# Altium schematic symbol library rt10.SCHLIB: 73 symbols
Pins are listed as number, name and electrical type; pins without a type are passive.

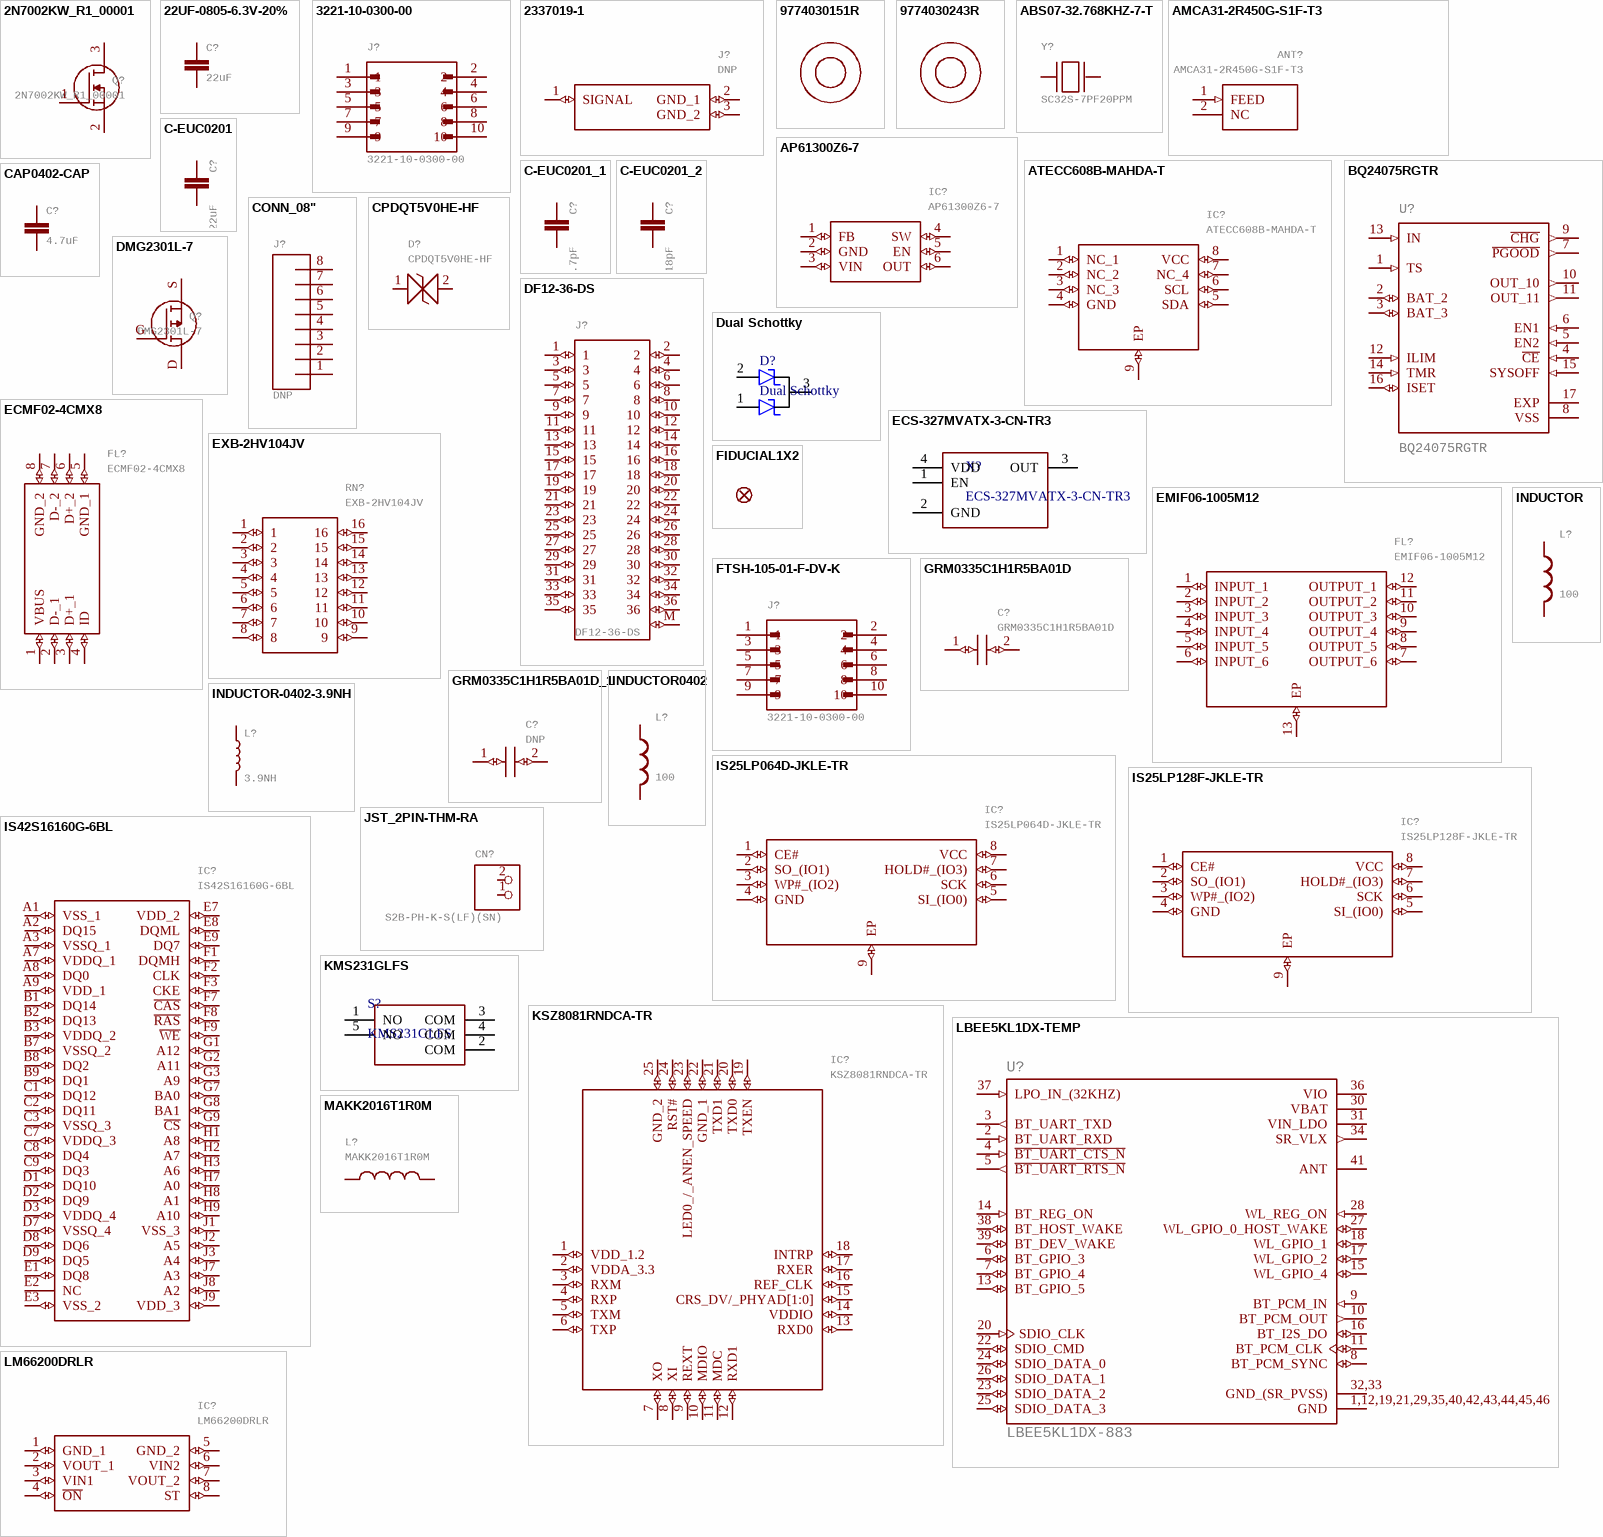
[diagram p0: symbols 2N7002KW_R1_00001 to MAKK2016T1R0M]

## 2N7002KW_R1_00001
designator Q?
MOSFET 60V N-Channel Enhancement Mode MOSFET - ESD Protected   Source:  Datasheet; MANUFACTURER_NAME: PANJIT; GateName_1: G$1; SymbolName_1: 2N7002KW_R1_00001; LibraryName: 2N7002KW_R1_00001; DeviceSetName: 2N7002KW_R1_00001; HEIGHT: 1.1mm; MANUFACTURER_PART_NUMBER: 2N7002KW_R1_00001; MOUSER_PART_NUMBER: 241-2N7002KWR100001; MOUSER_PRICE-STOCK: https://www.mouser.co.uk/ProductDetail/Panjit/2N7002KW_R1_00001?qs=sPbYRqrBIVliWKATqv7jNA%3D%3D; MPN: 2N7002KW_R1_00001
footprint SOT65P210X110-3N
pins: 1 G (io), 2 S (io), 3 D (io)

## 22UF-0805-6.3V-20%
designator C?, comment 22uF
22ÂµF ceramic capacitors    A capacitor is a passive two-terminal electrical component used to store electrical energy temporarily in an electric field.; MPN: CL21A226MQQNNNE; GateName_1: G$1; SymbolName_1: CAP; DeviceName: -0805-6.3V-20%; PROD_ID: CAP-08402; LibraryName: SparkFun-Capacitors; DeviceSetName: 22UF
footprint 0805
pins: 1, 2

## 3221-10-0300-00
designator J?
Check availability; GateName_1: G$1; MF: CNC Tech; SymbolName_1: 3221-10-0300-00; LibraryName: 3221-10-0300-00; DeviceSetName: 3221-10-0300-00; AVAILABILITY: In Stock; MP: 3221-10-0300-00; MPN: 3221-10-0300-00; PACKAGE: None; PRICE: None; PURCHASE-URL: https://pricing.snapeda.com/search/part/3221-10-0300-00/?ref=eda
footprint CNC_3221-10-0300-00
pins: 1, 2, 3, 4, 5, 6, 7, 8, 9, 10

## 2337019-1
designator J?, comment DNP
RF Connectors / Coaxial Connectors MicroCoax receptacle UMCC Gen 1   Source:  Datasheet; MANUFACTURER_NAME: TE Connectivity; GateName_1: G$1; SymbolName_1: 2337019-1; POPULATE: 0; LibraryName: 2337019-1; DeviceSetName: 2337019-1; HEIGHT: 1.4mm; MANUFACTURER_PART_NUMBER: 2337019-1; MOUSER_PART_NUMBER: 571-2337019-1; MOUSER_PRICE-STOCK: https://www.mouser.co.uk/ProductDetail/TE-Connectivity/2337019-1?qs=l4Gc20tDgJIuN7nS9rJkJw%3D%3D; MPN: 2337019-1
footprint 23370191
pins: 1 SIGNAL (io), 2 GND_1 (io), 3 GND_2 (io)

## 9774030151R
designator M?  (value not drawn)
GateName_1: G$1; SymbolName_1: 9774030151R; LibraryName: 9774030151R; DeviceSetName: 9774030151R; MPN: 9774030151R
footprint 9774030151R

## 9774030243R
designator M?  (value not drawn)
GateName_1: G$1; SymbolName_1: 9774030243R; LibraryName: 9774030243R; DeviceSetName: 9774030243R; MPN: 9774030243R
footprint 9774030243R (Round Standoff Threaded M2x0.4 Steel 0.118" (3.00mm))

## ABS07-32.768KHZ-7-T
designator Y?, comment SC32S-7PF20PPM
Check availability; GateName_1: G$1; SymbolName_1: ABS07-32.768KHZ-7-T; MF: Abracon; LibraryName: ABS07-32.768KHZ-7-T; DeviceSetName: ABS07-32.768KHZ-7-T; AVAILABILITY: In Stock; MP: ABS07-32.768KHZ-7-T; MPN: SC32S-7PF20PPM; PACKAGE: SMD-2 Abracon LLC; PRICE: None; PURCHASE-URL: https://pricing.snapeda.com/search/part/ABS07-32.768KHZ-7-T/?ref=eda
footprint XTAL_ABS07-32.768KHZ-7-T
pins: 1, 2

## AMCA31-2R450G-S1F-T3
designator ANT?
ABRACON - AMCA31-2R450G-S1F-T3 - ANTENNA, CHIP, 2.45GHZ, 50 OHM, 1206   Source:  Datasheet; GateName_1: G$1; SymbolName_1: AMCA31-2R450G-S1F-T3; LibraryName: AMCA31-2R450G-S1F-T3; DeviceSetName: AMCA31-2R450G-S1F-T3; HEIGHT: 1.4mm; MANUFACTURER_NAME: ABRACON; MANUFACTURER_PART_NUMBER: AMCA31-2R450G-S1F-T3; MOUSER_PART_NUMBER: 815-CA312R450GS1FT3; MOUSER_PRICE-STOCK: https://www.mouser.co.uk/ProductDetail/ABRACON/AMCA31-2R450G-S1F-T3?qs=AAveGqk956GLuOddQEK40Q%3D%3D; MPN: AMCA31-2R450G-S1F-T3
footprint ANTC3216X140N
pins: 1 FEED (in), 2 NC

## AP61300Z6-7
designator IC?
DCDC Conv LV Buck SOT563 T&R 3K   Source:  Datasheet; MANUFACTURER_NAME: Diodes Inc.; GateName_1: G$1; SymbolName_1: AP61300Z6-7; LibraryName: AP61300Z6-7; DeviceSetName: AP61300Z6-7; HEIGHT: 0.6mm; MANUFACTURER_PART_NUMBER: AP61300Z6-7; MOUSER_PART_NUMBER: 621-AP61300Z6-7; MOUSER_PRICE-STOCK: https://www.mouser.co.uk/ProductDetail/Diodes-Incorporated/AP61300Z6-7?qs=HBWAp0VN4Ri0dzb0XP2pEA%3D%3D; MPN: AP61300Z6-7
footprint SOTFL50P162X60-6N
pins: 1 FB (io), 2 GND (io), 3 VIN (io), 4 SW (io), 5 EN (io), 6 OUT (io)

## ATECC608B-MAHDA-T
designator IC?
CryptoAuthentication 8-Pin UDFN EP T/R   Source:  Datasheet; MANUFACTURER_NAME: Microchip; GateName_1: G$1; SymbolName_1: ATECC608B-MAHDA-T; LibraryName: ATECC608B-MAHDA-T; DeviceSetName: ATECC608B-MAHDA-T; HEIGHT: 0.6mm; MANUFACTURER_PART_NUMBER: ATECC608B-MAHDA-T; MOUSER_PART_NUMBER: 579-TECC608B-MAHDA-T; MOUSER_PRICE-STOCK: https://www.mouser.co.uk/ProductDetail/Microchip-Technology/ATECC608B-MAHDA-T?qs=W%2FMpXkg%252BdQ71cGyt0Wo3Jw%3D%3D; MPN: ATECC608B-MAHDA-T
footprint SON50P300X200X60-9N
pins: 1 NC_1 (io), 2 NC_2 (io), 3 NC_3 (io), 4 GND (io), 5 SDA (io), 6 SCL (io), 7 NC_4 (io), 8 VCC (io), 9 EP (io)

## BQ24075RGTR
designator U?
Standalone 1-cell 1.5-A linear charger, Power Path, 4.2-V VBAT and 5.5-V VOUT 16-VQFN -40 to 85  Check availability; GateName_1: G$1; MF: Texas Instruments; SymbolName_1: BQ24075RGTR; LibraryName: BQ24075RGTR; DeviceSetName: BQ24075RGTR; AVAILABILITY: In Stock; MP: BQ24075RGTR; MPN: BQ24075RGTR; PACKAGE: VQFN-16 Texas Instruments; PRICE: None; PURCHASE-URL: https://pricing.snapeda.com/search/part/BQ24075RGTR/?ref=eda
footprint QFN50P300X300X100-17N
pins: 1 TS (in), 2 BAT_2 (io), 3 BAT_3 (io), 4 ~{CE} (in), 5 EN2 (in), 6 EN1 (in), 7 ~{PGOOD} (out), 8 VSS (power), 9 ~{CHG} (out), 10 OUT_10 (out), 11 OUT_11 (out), 12 ILIM (in), 13 IN (in), 14 TMR (in), 15 SYSOFF (in), 16 ISET (io), 17 EXP (power)

## C-EUC0201
designator C?, comment 0.22uF
CAPACITOR, European symbol; MPN: GRM033R60J224ME15D; GateName_1: G$1; SymbolName_1: C-EU; DeviceName: C0201; POPULARITY: 0; LibraryName: rcl; DeviceSetName: C-EU; SPICEPREFIX: C
footprint C0201
pins: 1, 2

## C-EUC0201_1
designator C?, comment 4.7pF
CAPACITOR, European symbol; MPN: GRM0335C1E4R7CA01D; GateName_1: G$1; SymbolName_1: C-EU; DeviceName: C0201; POPULARITY: 0; LibraryName: rcl; DeviceSetName: C-EU; SPICEPREFIX: C
footprint C0201
pins: 1, 2

## C-EUC0201_2
designator C?, comment 18pF
CAPACITOR, European symbol; MPN: GRM0335C1E180JA01D; GateName_1: G$1; SymbolName_1: C-EU; DeviceName: C0201; POPULARITY: 0; LibraryName: rcl; DeviceSetName: C-EU; SPICEPREFIX: C
footprint C0201
pins: 1, 2

## CAP0402-CAP
designator C?, comment 4.7uF
CapacitorStandard 0603 ceramic capacitor, and 0.1" leaded capacitor.; MPN: JMK105BBJ475MV-F; GateName_1: G$1; SymbolName_1: CAP; DeviceName: 0402-CAP; LibraryName: sfe; DeviceSetName: CAP
footprint 0402-CAP
pins: 1, 2

## CONN_08"
designator J?, comment DNP
Multi connection point. Often used as Generic Header-pin footprint for 0.1 inch spaced/style header connections    On any of the 0.1 inch spaced packages, you can populate with these:  Break Away Headers - Straight (PRT-00116)   Break Away Male Headers - Right Angle (PRT-00553)   Female Headers (PRT-00115)   Break Away Headers - Machine Pin (PRT-00117)   Break Away Female Headers - Swiss Machine Pin (PRT-00743)   Arduino Stackable Header - 8 Pin (PRT-09279)        For SCREWTERMINALS and SPRING TERMINALS visit here:  Screw Terimnals on SparkFun.com (5mm/3.5mm/2.54mm spacing)       This device is also useful as a general connection point to wire up your design to another part of your project. Our various solder wires solder well into these plated through hole pads.  Hook-Up Wire - Assortment (Stranded, 22 AWG) (PRT-11375)   Hook-Up Wire - Assortment (Solid Core, 22 AWG) (PRT-11367)   View the entire wire category on our website here          Special notes:     Molex polarized connector foot print use with SKU : PRT-08231 with associated crimp pins and housings. 1MM SMD Version SKU: PRT-10208    NOTES ON THE VARIANTS LOCK and LOCK_LONGPADS... This footprint was designed to help hold the alignment of a through-hole component (i.e.  6-pin header) while soldering it into place. You may notice that each hole has been shifted either up or down by 0.005 of an inch from it's more standard position (which is a perfectly straight line).  This slight alteration caused the pins (the squares in the middle) to touch the edges of the holes.  Because they are alternating, it causes a "brace" to hold the component in place.  0.005 has proven to be the perfect amount of "off-center" position when using our standard breakaway headers. Although looks a little odd when you look at the bare footprint, once you have a header in there, the alteration is very hard to notice.  Also,if you push a header all the way into place, it is covered up entirely on the bottom side.; GateName_1: G$1; SymbolName_1: CONN_08; DeviceName: "; POPULATE: 0; PROD_ID: CONN-08438; LibraryName: SparkFun-Connectors; DeviceSetName: CONN_08
footprint 1X08
pins: 1, 2, 3, 4, 5, 6, 7, 8

## CPDQT5V0HE-HF
designator D?
ESD Suppressors / TVS Diodes DIODE ESD 5VWM 65W 0402/SOD-923F   Source:  Datasheet; MANUFACTURER_NAME: Comchip Technology; GateName_1: G$1; SymbolName_1: CPDQT5V0HE-HF; LibraryName: CPDQT5V0HE-HF; DeviceSetName: CPDQT5V0HE-HF; HEIGHT: 0.42mm; MANUFACTURER_PART_NUMBER: CPDQT5V0HE-HF; MOUSER_PART_NUMBER: MOUSER_PART_NUMBER; MOUSER_PRICE-STOCK: MOUSER_PRICE-STOCK; MPN: CPDQT5V0HE-HF
footprint CPDQT5V0HEHF
pins: 1 (io), 2 (io)

## DF12-36-DS
designator J?
MPN: DF12NB-36DS-0.5V(51); GateName_1: G$1; SymbolName_1: DF12-36; LibraryName: DF12-36-DS; DeviceSetName: DF12-36-DS
footprint DF12-36-DS
pins: 1 (io), 2 (io), 3 (io), 4 (io), 5 (io), 6 (io), 7 (io), 8 (io), 9 (io), 10 (io), 11 (io), 12 (io), 13 (io), 14 (io), 15 (io), 16 (io), 17 (io), 18 (io), 19 (io), 20 (io), 21 (io), 22 (io), 23 (io), 24 (io), 25 (io), 26 (io), 27 (io), 28 (io), 29 (io), 30 (io), 31 (io), 32 (io), 33 (io), 34 (io), 35 (io), 36 (io), M (io)

## DMG2301L-7
designator Q?
GateName_1: G$1; HEIGHT: 1.1mm; MPN: DMG2301L-7
footprint SOT-23-3-FET
pins: D (io), G (io), S (io)

## Dual Schottky
designator D?
Value: ?V; MANUFACTURER P/N: *
footprint SOT-23-3 (Footprint not found)
pins: 1, 2, 3

## ECMF02-4CMX8
designator FL?
Common Mode Filter & ESD Prot. USB uQFN8 STMicroelectronics ECMF02 Series, Signal Filter uQFN SMD, Flat Contact Termination, 2.6 x 1.3 x 0.6mm   Source:  Datasheet; GateName_1: G$1; SymbolName_1: ECMF02-4CMX8; LibraryName: ECMF02-4CMX8; DeviceSetName: ECMF02-4CMX8; HEIGHT: mm; MANUFACTURER_NAME: STMicroelectronics; MANUFACTURER_PART_NUMBER: ECMF02-4CMX8; MOUSER_PART_NUMBER: 511-ECMF02-4CMX8; MOUSER_PRICE-STOCK: https://www.mouser.co.uk/ProductDetail/STMicroelectronics/ECMF02-4CMX8?qs=xYt8xtm2zhmK7GoDlDZR3A%3D%3D; MPN: ECMF02-4CMX8
footprint ECMF024CMX8
pins: 1 VBUS (io), 2 D-_1 (io), 3 D+_1 (io), 4 ID (io), 5 GND_1 (io), 6 D+_2 (io), 7 D-_2 (io), 8 GND_2 (io)

## ECS-327MVATX-3-CN-TR3
designator X?
Part Number: ECS-327MVATX-3-CN-TR3
footprint XTAL_3225
pins: 1 EN, 2 GND, 3 OUT, 4 VDD

## EMIF06-1005M12
designator FL?
EMI Filter Circuits 6lin lw cpcitnc EMI 45pF -35db @ 900MHz   Source:  Datasheet; MANUFACTURER_NAME: STMicroelectronics; GateName_1: G$1; SymbolName_1: EMIF06-1005M12; LibraryName: EMIF06-1005M12; DeviceSetName: EMIF06-1005M12; HEIGHT: 0.65mm; MANUFACTURER_PART_NUMBER: EMIF06-1005M12; MOUSER_PART_NUMBER: 511-EMIF06-1005M12; MOUSER_PRICE-STOCK: https://www.mouser.co.uk/ProductDetail/STMicroelectronics/EMIF06-1005M12?qs=VJaATVMq%252BXo0u09ZqtQg3A%3D%3D; MPN: EMIF06-1005M12
footprint SON40P150X250X65-13N
pins: 1 INPUT_1 (io), 2 INPUT_2 (io), 3 INPUT_3 (io), 4 INPUT_4 (io), 5 INPUT_5 (io), 6 INPUT_6 (io), 7 OUTPUT_6 (io), 8 OUTPUT_5 (io), 9 OUTPUT_4 (io), 10 OUTPUT_3 (io), 11 OUTPUT_2 (io), 12 OUTPUT_1 (io), 13 EP (io)

## EXB-2HV104JV
designator RN?
Resistor Networks & Arrays Resistor Array Chip 8 Elements 1506   Source:  Datasheet; MANUFACTURER_NAME: Panasonic; GateName_1: G$1; SymbolName_1: EXB-2HV104JV; LibraryName: EXB-2HV104JV; DeviceSetName: EXB-2HV104JV; HEIGHT: 0.55mm; MANUFACTURER_PART_NUMBER: EXB-2HV104JV; MOUSER_PART_NUMBER: 667-EXB-2HV104JV; MOUSER_PRICE-STOCK: https://www.mouser.co.uk/ProductDetail/Panasonic/EXB-2HV104JV?qs=9MgLB97nXf9MD%252BafCCtPcA%3D%3D
footprint EXB2HV104JV
pins: 1 (io), 2 (io), 3 (io), 4 (io), 5 (io), 6 (io), 7 (io), 8 (io), 9 (io), 10 (io), 11 (io), 12 (io), 13 (io), 14 (io), 15 (io), 16 (io)

## FIDUCIAL1X2
designator FD?  (value not drawn)
Fiducial Alignment Points    Point-of-reference for pick-and-place machines and other optical instruments.; GateName_1: G$1; DeviceName: 1X2; SymbolName_1: FIDUCIAL; LibraryName: SparkFun-Aesthetics; DeviceSetName: FIDUCIAL
footprint FIDUCIAL-1X2

## FTSH-105-01-F-DV-K
designator J?, comment 3221-10-0300-00
Check availability; GateName_1: G$1; SymbolName_1: FTSH-105-01-F-DV-K; MF: Samtec; LibraryName: FTSH-105-01-F-DV-K; DeviceSetName: FTSH-105-01-F-DV-K; AVAILABILITY: In Stock; MP: FTSH-105-01-F-DV-K; MPN: FTSH-105-01-F-DV-K; PACKAGE: None; PRICE: None
footprint CNC_3221-10-0300-00
pins: 1, 2, 3, 4, 5, 6, 7, 8, 9, 10

## GRM0335C1H1R5BA01D
designator C?
Chip Capacitor value 1R5   Source:  Datasheet; MANUFACTURER_NAME: Murata Electronics; GateName_1: G$1; SymbolName_1: GRM0335C1H1R5BA01D; LibraryName: GRM0335C1H1R5BA01D; DeviceSetName: GRM0335C1H1R5BA01D; HEIGHT: 0.33mm; MANUFACTURER_PART_NUMBER: GRM0335C1H1R5BA01D; MOUSER_PART_NUMBER: 81-GRM0335C1H1R5BA1D; MOUSER_PRICE-STOCK: https://www.mouser.co.uk/ProductDetail/Murata-Electronics/GRM0335C1H1R5BA01D?qs=7vGxPDjevFPFqveGwv%252BPUQ%3D%3D; MPN: GRM0335C1H1R5BA01D
footprint CAPC0603X33N
pins: 1 (io), 2 (io)

## GRM0335C1H1R5BA01D_1
designator C?, comment DNP
Chip Capacitor value 1R5   Source:  Datasheet; MANUFACTURER_NAME: Murata Electronics; GateName_1: G$1; SymbolName_1: GRM0335C1H1R5BA01D; POPULATE: 0; LibraryName: GRM0335C1H1R5BA01D; DeviceSetName: GRM0335C1H1R5BA01D; HEIGHT: 0.33mm; MANUFACTURER_PART_NUMBER: GRM0335C1H1R5BA01D; MOUSER_PART_NUMBER: 81-GRM0335C1H1R5BA1D; MOUSER_PRICE-STOCK: https://www.mouser.co.uk/ProductDetail/Murata-Electronics/GRM0335C1H1R5BA01D?qs=7vGxPDjevFPFqveGwv%252BPUQ%3D%3D; MPN: GRM0335C1H1R5BA01D
footprint CAPC0603X33N
pins: 1 (io), 2 (io)

## INDUCTOR
designator L?, comment 100
InductorsBasic Inductor/Choke - 0603 and 1206. Footprints are not proven and vary greatly between part numbers.; MPN: MFBM1V1608-101-R; GateName_1: G$1
footprint 0603-RES
pins: 1, 2

## INDUCTOR0402
designator L?, comment 100
InductorsBasic Inductor/Choke - 0603 and 1206. Footprints are not proven and vary greatly between part numbers.; MPN: MFBM1V1608-101-R; GateName_1: G$1; DeviceName: 0402; SymbolName_1: INDUCTOR; LibraryName: sfe; DeviceSetName: INDUCTOR
footprint C0402
pins: 1, 2

## INDUCTOR-0402-3.9NH
designator L?, comment 3.9NH
Inductors    Resist changes in electrical current. Basically a coil of wire.   SparkFun Products:  SparkFun Load Cell Amplifier - HX711  IOIO-OTG - V2.2; MPN: L-07C3N9SV6T; GateName_1: G$1; DeviceName: -0402-3.9NH; PROD_ID: NDUC-13457; SymbolName_1: INDUCTOR; LibraryName: SparkFun-Coils; DeviceSetName: INDUCTOR
footprint 0402
pins: 1, 2

## IS25LP064D-JKLE-TR
designator IC?
NOR Flash 64M 2.3-3.6V 166Mhz Serial NOR Flash   Source:  Datasheet; MANUFACTURER_NAME: Integrated Silicon Solution Inc.; GateName_1: G$1; SymbolName_1: IS25LP064D-JKLE-TR; LibraryName: IS25LP128F-JKLE-TR; DeviceSetName: IS25LP064D-JKLE-TR; HEIGHT: 0.8mm; MANUFACTURER_PART_NUMBER: IS25LP064D-JKLE-TR; MOUSER_PART_NUMBER: 870-5LP064D-JKLE-TR; MOUSER_PRICE-STOCK: https://www.mouser.com/ProductDetail/ISSI/IS25LP064D-JKLE-TR?qs=xZ%2FP%252Ba9zWqa2pmLA1ByOew%3D%3D; MPN: IS25LP064D-JKLE-TR
footprint SON127P500X595X80-9N
pins: 1 CE# (io), 2 SO_(IO1) (io), 3 WP#_(IO2) (io), 4 GND (io), 5 SI_(IO0) (io), 6 SCK (io), 7 HOLD#_(IO3) (io), 8 VCC (io), 9 EP (io)

## IS25LP128F-JKLE-TR
designator IC?
NOR Flash 128M 2.3-3.6V 166Mhz Serial NOR Flash   Source:  Datasheet; MANUFACTURER_NAME: Integrated Silicon Solution Inc.; GateName_1: G$1; SymbolName_1: IS25LP128F-JKLE-TR; LibraryName: IS25LP128F-JKLE-TR; DeviceSetName: IS25LP128F-JKLE-TR; HEIGHT: 0.8mm; MANUFACTURER_PART_NUMBER: IS25LP128F-JKLE-TR; MOUSER_PART_NUMBER: 870-IS25LP128FJKLETR; MOUSER_PRICE-STOCK: https://www.mouser.co.uk/ProductDetail/ISSI/IS25LP128F-JKLE-TR?qs=F5EMLAvA7IC8MN2X519UUw%3D%3D; MPN: IS25LP128F-JKLE-TR
footprint SON127P500X595X80-9N
pins: 1 CE# (io), 2 SO_(IO1) (io), 3 WP#_(IO2) (io), 4 GND (io), 5 SI_(IO0) (io), 6 SCK (io), 7 HOLD#_(IO3) (io), 8 VCC (io), 9 EP (io)

## IS42S16160G-6BL
designator IC?
DRAM 256M 16Mx16 166Mhz SDR SDRAM, 3.3V   Source:  Datasheet; MANUFACTURER_NAME: Integrated Silicon Solution Inc.; GateName_1: G$1; SymbolName_1: IS42S16160G-6BL; LibraryName: IS42S16160G-6BL; DeviceSetName: IS42S16160G-6BL; HEIGHT: 1.2mm; MANUFACTURER_PART_NUMBER: IS42S16160G-6BL; MOUSER_PART_NUMBER: 870-IS42S16160G-6BL; MOUSER_PRICE-STOCK: https://www.mouser.co.uk/ProductDetail/ISSI/IS42S16160G-6BL?qs=9hm%252BDT1Jr7yvZBhvmJyecQ%3D%3D; MPN: IS42S16160G-6BL
footprint BGA54C80P9X9_800X800X120
pins: A1 VSS_1 (io), A2 DQ15 (io), A3 VSSQ_1 (io), A7 VDDQ_1 (io), A8 DQ0 (io), A9 VDD_1 (io), B1 DQ14 (io), B2 DQ13 (io), B3 VDDQ_2 (io), B7 VSSQ_2 (io), B8 DQ2 (io), B9 DQ1 (io), C1 DQ12 (io), C2 DQ11 (io), C3 VSSQ_3 (io), C7 VDDQ_3 (io), C8 DQ4 (io), C9 DQ3 (io), D1 DQ10 (io), D2 DQ9 (io), D3 VDDQ_4 (io), D7 VSSQ_4 (io), D8 DQ6 (io), D9 DQ5 (io), E1 DQ8 (io), E2 NC, E3 VSS_2 (io), E7 VDD_2 (io), E8 DQML (io), E9 DQ7 (io), F1 DQMH (io), F2 CLK (io), F3 CKE (io), F7 ~{CAS} (io), F8 ~{RAS} (io), F9 ~{WE} (io), G1 A12 (io), G2 A11 (io), G3 A9 (io), G7 BA0 (io), G8 BA1 (io), G9 ~{CS} (io), H1 A8 (io), H2 A7 (io), H3 A6 (io), H7 A0 (io), H8 A1 (io), H9 A10 (io), J1 VSS_3 (io), J2 A5 (io), J3 A4 (io), J7 A3 (io), J8 A2 (io), J9 VDD_3 (io)

## JST_2PIN-THM-RA
designator CN?, comment S2B-PH-K-S(LF)(SN)
JST 2-Pin Connectors of various flavors SMT-RA (S2B-PH-SM4) 4UConnector #17311  SMT  (B2B-PH-SM4)  THM-RA (S2B-PH)  THM  (B2B-PH); GateName_1: G$1; SymbolName_1: PINHD2; DeviceName: -THM-RA; DeviceSetName: JST_2PIN; LibraryName: adafruit-updated; MPN: S2B-PH-K-S(LF)(SN)
footprint JST-PH-2-THM-RA
pins: 1 2, 2 1

## KMS231GLFS
designator S?
Part Number: KMS231GLFS
footprint KMS231GLFS
pins: 1 NO, 2 COM, 3 COM, 4 COM, 5 NO

## KSZ8081RNDCA-TR
designator IC?
Ethernet ICs 10/100 BASE-TX Physical Layer Transceiver   Source:  Datasheet; MANUFACTURER_NAME: Microchip; GateName_1: G$1; SymbolName_1: KSZ8081RNDCA-TR; LibraryName: KSZ8081RNDCA-TR; DeviceSetName: KSZ8081RNDCA-TR; HEIGHT: 0.9mm; MANUFACTURER_PART_NUMBER: KSZ8081RNDCA-TR; MOUSER_PART_NUMBER: 998-KSZ8081RNDCATR; MOUSER_PRICE-STOCK: https://www.mouser.co.uk/ProductDetail/Microchip-Technology-Atmel/KSZ8081RNDCA-TR?qs=U6T8BxXiZAXLXXdn%2FieQKw%3D%3D; MPN: KSZ8081RNDCA-TR
footprint QFN50P400X400X90-25N
pins: 1 VDD_1.2 (io), 2 VDDA_3.3 (io), 3 RXM (io), 4 RXP (io), 5 TXM (io), 6 TXP (io), 7 XO (io), 8 XI (io), 9 REXT (io), 10 MDIO (io), 11 MDC (io), 12 RXD1 (io), 13 RXD0 (io), 14 VDDIO (io), 15 CRS_DV/_PHYAD[1:0] (io), 16 REF_CLK (io), 17 RXER (io), 18 INTRP (io), 19 TXEN (io), 20 TXD0 (io), 21 TXD1 (io), 22 GND_1 (io), 23 LED0_/_ANEN_SPEED (io), 24 RST# (io), 25 GND_2 (io)

## LBEE5KL1DX-TEMP
designator U?, comment LBEE5KL1DX-883
Broadcom Chipset for 802.11b/g/n + Bluetooth 4.1/EDR; GateName_1: G$1; SymbolName_1: LBEE5KL1DX-TEMP; MF: Murata Electronics; LibraryName: LBEE5KL1DX-TEMP; DeviceSetName: LBEE5KL1DX-TEMP; AVAILABILITY: Unavailable; MP: LBEE5KL1DX-TEMP; MPN: LBEE5KL1DX-883; PACKAGE: None; PRICE: None
footprint XCVR_LBEE5KL1DX-TEMP
pins: 1,12,19,21,29,35,40,42,43,44,45,46 GND (power), 2 BT_UART_RXD (in), 3 BT_UART_TXD (out), 4 ~{BT_UART_CTS_N} (in), 5 ~{BT_UART_RTS_N} (out), 6 BT_GPIO_3 (io), 7 BT_GPIO_4 (io), 8 BT_PCM_SYNC (io), 9 BT_PCM_IN (in), 10 BT_PCM_OUT (out), 11 BT_PCM_CLK (io), 13 BT_GPIO_5 (io), 14 BT_REG_ON (in), 15 WL_GPIO_4 (io), 16 BT_I2S_DO (io), 17 WL_GPIO_2 (io), 18 WL_GPIO_1 (io), 20 SDIO_CLK (in), 22 SDIO_CMD (io), 23 SDIO_DATA_2 (io), 24 SDIO_DATA_0 (io), 25 SDIO_DATA_3 (io), 26 SDIO_DATA_1 (io), 27 WL_GPIO_0_HOST_WAKE (io), 28 WL_REG_ON (in), 30 VBAT (power), 31 VIN_LDO (power), 32,33 GND_(SR_PVSS) (power), 34 SR_VLX (out), 36 VIO (power), 37 LPO_IN_(32KHZ) (in), 38 BT_HOST_WAKE (io), 39 BT_DEV_WAKE (io), 41 ANT

## LM66200DRLR
designator IC?
1.6-V to 5.5-V, 40-m, 2.5-A, low-IQ, dual ideal diode   Source:  Datasheet; MANUFACTURER_NAME: Texas Instruments; GateName_1: G$1; SymbolName_1: LM66200DRLR; LibraryName: LM66200DRLR; DeviceSetName: LM66200DRLR; HEIGHT: 0.6mm; MANUFACTURER_PART_NUMBER: LM66200DRLR; MOUSER_PART_NUMBER: 595-LM66200DRLR; MOUSER_PRICE-STOCK: https://www.mouser.co.uk/ProductDetail/Texas-Instruments/LM66200DRLR?qs=Rp5uXu7WBW90hnpZAkIOdQ%3D%3D; MPN: LM66200DRLR
footprint SOTFL50P160X60-8N
pins: 1 GND_1 (io), 2 VOUT_1 (io), 3 VIN1 (io), 4 ~{ON} (io), 5 GND_2 (io), 6 VIN2 (io), 7 VOUT_2 (io), 8 ST (io)

## MAKK2016T1R0M
designator L?
Ind Power Wirewound 1uH 20% 2MHz Metal 2200mA 0806 Check availability; GateName_1: G$1; MF: Taiyo Yuden; SymbolName_1: MAKK2016T1R0M; LibraryName: MAKK2016T1R0M; DeviceSetName: MAKK2016T1R0M; AVAILABILITY: In Stock; MP: MAKK2016T1R0M; MPN: MAKK2016T1R0M; PACKAGE: 2016 Taiyo Yuden; PRICE: None; PURCHASE-URL: https://pricing.snapeda.com/search/part/MAKK2016T1R0M/?ref=eda
footprint INDC2016X100N
pins: 1, 2

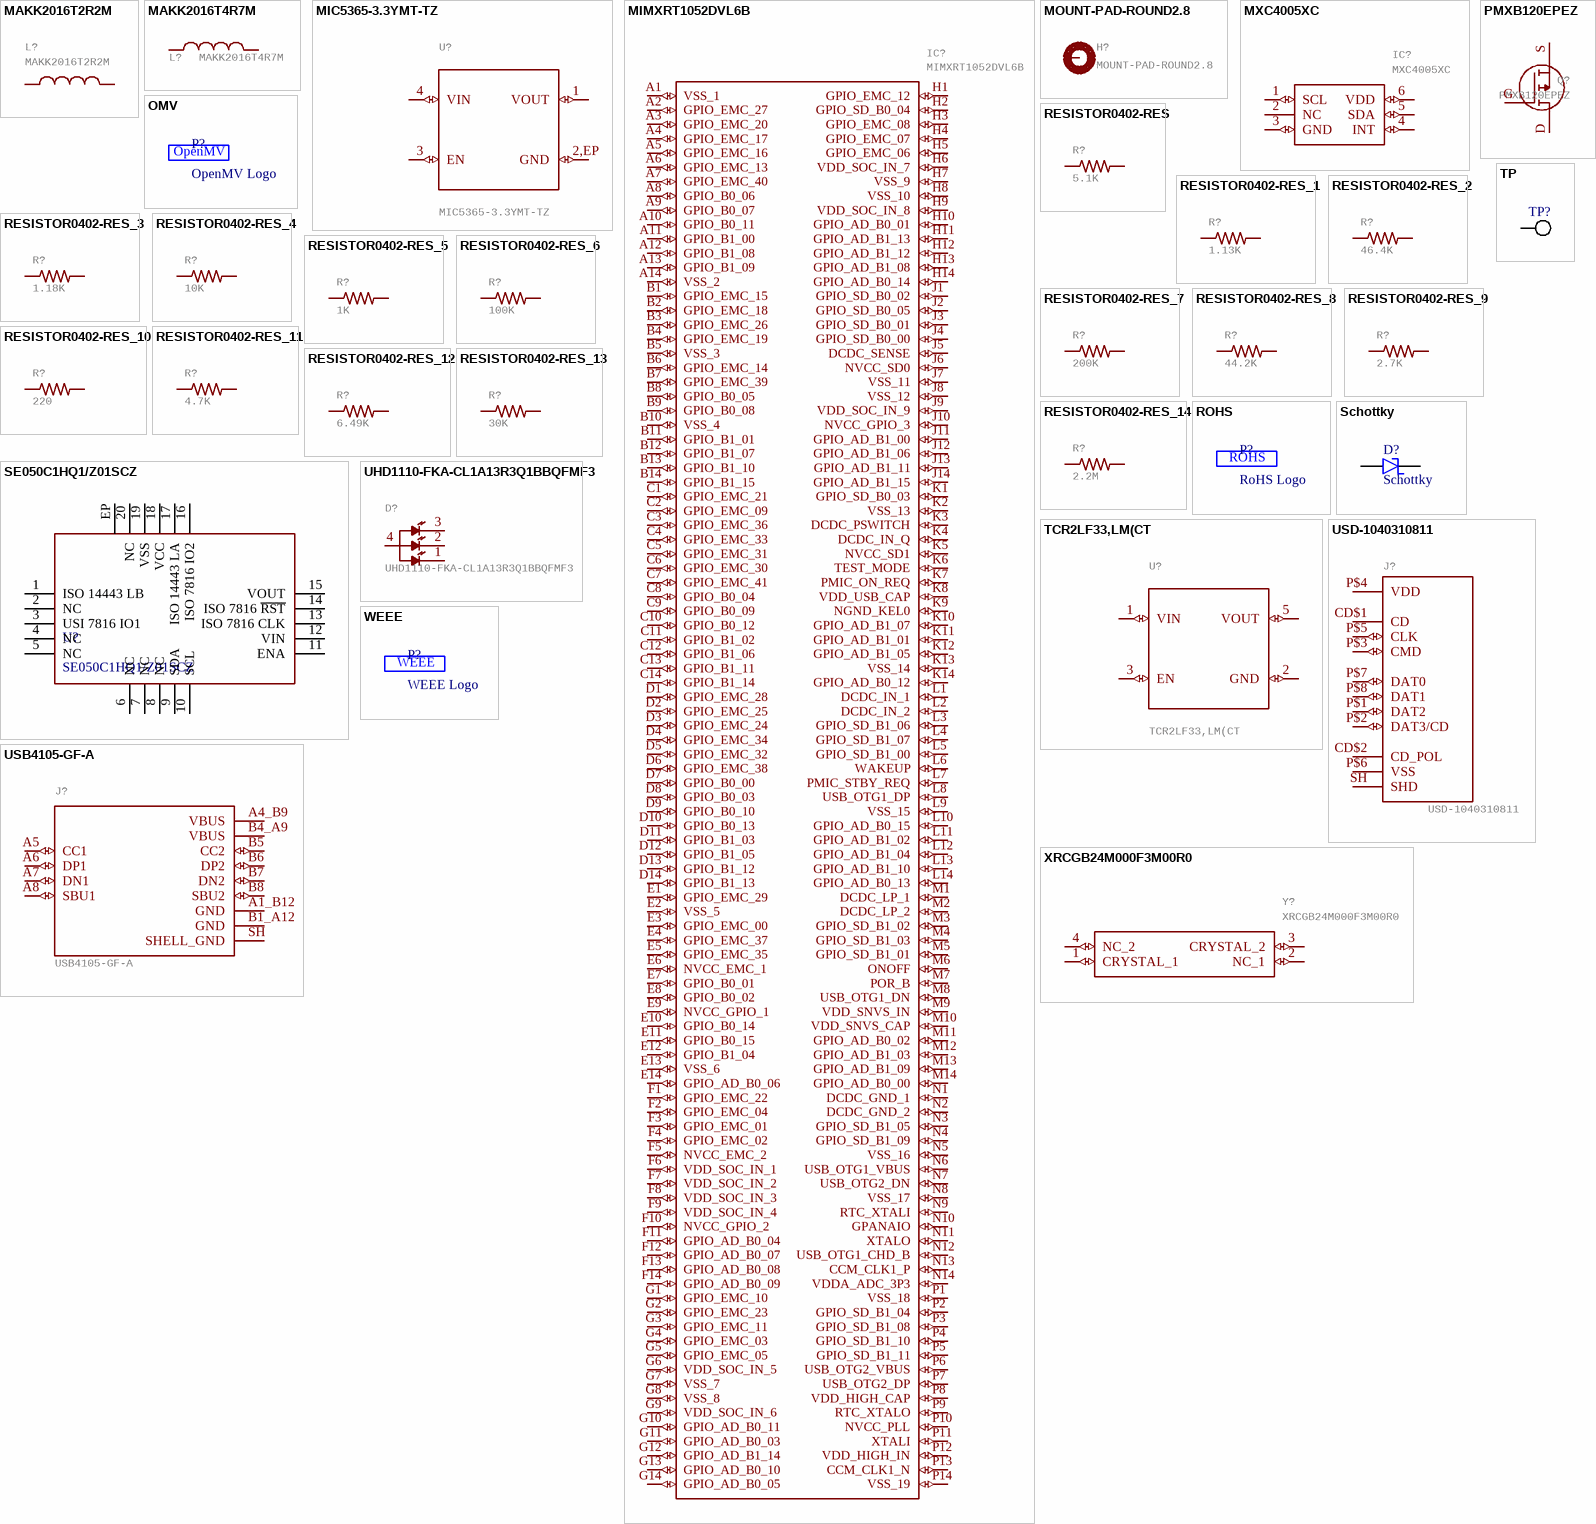
[diagram p1: symbols MAKK2016T2R2M to XRCGB24M000F3M00R0]

## MAKK2016T2R2M
designator L?
INDUCTOR, METAL CORE Check availability; GateName_1: G$1; MF: Taiyo Yuden; SymbolName_1: MAKK2016T2R2M; LibraryName: MAKK2016T2R2M; DeviceSetName: MAKK2016T2R2M; AVAILABILITY: In Stock; MP: MAKK2016T2R2M; MPN: MAKK2016T2R2M; PACKAGE: 2016 Taiyo Yuden; PRICE: None; PURCHASE-URL: https://pricing.snapeda.com/search/part/MAKK2016T2R2M/?ref=eda
footprint INDC2016X100N
pins: 1, 2

## MAKK2016T4R7M
designator L?
INDUCTOR, METAL CORE, SHIELDED, SMD HIGH CURRENT, 4.7uH, 20%, TR Check availability; GateName_1: G$1; MF: Taiyo Yuden; SymbolName_1: MAKK2016T4R7M; LibraryName: MAKK2016T4R7M; DeviceSetName: MAKK2016T4R7M; AVAILABILITY: In Stock; MP: MAKK2016T4R7M; MPN: MAKK2016T4R7M; PACKAGE: 2016 Taiyo Yuden; PRICE: None; PURCHASE-URL: https://pricing.snapeda.com/search/part/MAKK2016T4R7M/?ref=eda
footprint INDC2016X100N
pins: 1, 2

## MIC5365-3.3YMT-TZ
designator U?
GateName_1: G$1; SymbolName_1: VREG_MIC5365-3.3YMT-TZ; LibraryName: MIC5365-3.3YMT-TZ; DeviceSetName: MIC5365-3.3YMT-TZ; MPN: MIC5365-3.3YMT-TZ
footprint VREG_MIC5365-3.3YMT-TZ
pins: 1 VOUT (io), 2,EP GND (io), 3 EN (io), 4 VIN (io)

## MIMXRT1052DVL6B
designator IC?
Processors - Application Specialized MIMXRT1052DVL6B/LFBGA196///STANDARD MARKING * TRAY   Source:  Datasheet; MANUFACTURER_NAME: NXP; GateName_1: G$1; SymbolName_1: MIMXRT1052DVL6B; LibraryName: MIMXRT1052DVL6B; DeviceSetName: MIMXRT1052DVL6B; HEIGHT: 1.43mm; MANUFACTURER_PART_NUMBER: MIMXRT1052DVL6B; MOUSER_PART_NUMBER: 771-MIMXRT1052DVL6B; MOUSER_PRICE-STOCK: https://www.mouser.co.uk/ProductDetail/NXP-Semiconductors/MIMXRT1052DVL6B?qs=r5DSvlrkXmLhWvqckzJtSg%3D%3D; MPN: MIMXRT1052DVL6B
footprint BGA196C65P14X14_1000X1000X143
pins: A1 VSS_1 (io), A2 GPIO_EMC_27 (io), A3 GPIO_EMC_20 (io), A4 GPIO_EMC_17 (io), A5 GPIO_EMC_16 (io), A6 GPIO_EMC_13 (io), A7 GPIO_EMC_40 (io), A8 GPIO_B0_06 (io), A9 GPIO_B0_07 (io), A10 GPIO_B0_11 (io), A11 GPIO_B1_00 (io), A12 GPIO_B1_08 (io), A13 GPIO_B1_09 (io), A14 VSS_2 (io), B1 GPIO_EMC_15 (io), B2 GPIO_EMC_18 (io), B3 GPIO_EMC_26 (io), B4 GPIO_EMC_19 (io), B5 VSS_3 (io), B6 GPIO_EMC_14 (io), B7 GPIO_EMC_39 (io), B8 GPIO_B0_05 (io), B9 GPIO_B0_08 (io), B10 VSS_4 (io), B11 GPIO_B1_01 (io), B12 GPIO_B1_07 (io), B13 GPIO_B1_10 (io), B14 GPIO_B1_15 (io), C1 GPIO_EMC_21 (io), C2 GPIO_EMC_09 (io), C3 GPIO_EMC_36 (io), C4 GPIO_EMC_33 (io), C5 GPIO_EMC_31 (io), C6 GPIO_EMC_30 (io), C7 GPIO_EMC_41 (io), C8 GPIO_B0_04 (io), C9 GPIO_B0_09 (io), C10 GPIO_B0_12 (io), C11 GPIO_B1_02 (io), C12 GPIO_B1_06 (io), C13 GPIO_B1_11 (io), C14 GPIO_B1_14 (io), D1 GPIO_EMC_28 (io), D2 GPIO_EMC_25 (io), D3 GPIO_EMC_24 (io), D4 GPIO_EMC_34 (io), D5 GPIO_EMC_32 (io), D6 GPIO_EMC_38 (io), D7 GPIO_B0_00 (io), D8 GPIO_B0_03 (io), D9 GPIO_B0_10 (io), D10 GPIO_B0_13 (io), D11 GPIO_B1_03 (io), D12 GPIO_B1_05 (io), D13 GPIO_B1_12 (io), D14 GPIO_B1_13 (io), E1 GPIO_EMC_29 (io), E2 VSS_5 (io), E3 GPIO_EMC_00 (io), E4 GPIO_EMC_37 (io), E5 GPIO_EMC_35 (io), E6 NVCC_EMC_1 (io), E7 GPIO_B0_01 (io), E8 GPIO_B0_02 (io), E9 NVCC_GPIO_1 (io), E10 GPIO_B0_14 (io), E11 GPIO_B0_15 (io), E12 GPIO_B1_04 (io), E13 VSS_6 (io), E14 GPIO_AD_B0_06 (io), F1 GPIO_EMC_22 (io), F2 GPIO_EMC_04 (io), F3 GPIO_EMC_01 (io), F4 GPIO_EMC_02 (io), F5 NVCC_EMC_2 (io), F6 VDD_SOC_IN_1 (io), F7 VDD_SOC_IN_2 (io), F8 VDD_SOC_IN_3 (io), F9 VDD_SOC_IN_4 (io), F10 NVCC_GPIO_2 (io), F11 GPIO_AD_B0_04 (io), F12 GPIO_AD_B0_07 (io), F13 GPIO_AD_B0_08 (io), F14 GPIO_AD_B0_09 (io), G1 GPIO_EMC_10 (io), G2 GPIO_EMC_23 (io), G3 GPIO_EMC_11 (io), G4 GPIO_EMC_03 (io), G5 GPIO_EMC_05 (io), G6 VDD_SOC_IN_5 (io), G7 VSS_7 (io), G8 VSS_8 (io), G9 VDD_SOC_IN_6 (io), G10 GPIO_AD_B0_11 (io), G11 GPIO_AD_B0_03 (io), G12 GPIO_AD_B1_14 (io), G13 GPIO_AD_B0_10 (io), G14 GPIO_AD_B0_05 (io), H1 GPIO_EMC_12 (io), H2 GPIO_SD_B0_04 (io), H3 GPIO_EMC_08 (io), H4 GPIO_EMC_07 (io), H5 GPIO_EMC_06 (io), H6 VDD_SOC_IN_7 (io), H7 VSS_9 (io), H8 VSS_10 (io), H9 VDD_SOC_IN_8 (io), H10 GPIO_AD_B0_01 (io), H11 GPIO_AD_B1_13 (io), H12 GPIO_AD_B1_12 (io), H13 GPIO_AD_B1_08 (io), H14 GPIO_AD_B0_14 (io), J1 GPIO_SD_B0_02 (io), J2 GPIO_SD_B0_05 (io), J3 GPIO_SD_B0_01 (io), J4 GPIO_SD_B0_00 (io), J5 DCDC_SENSE (io), J6 NVCC_SD0 (io), J7 VSS_11 (io), J8 VSS_12 (io), J9 VDD_SOC_IN_9 (io), J10 NVCC_GPIO_3 (io), J11 GPIO_AD_B1_00 (io), J12 GPIO_AD_B1_06 (io), J13 GPIO_AD_B1_11 (io), J14 GPIO_AD_B1_15 (io), K1 GPIO_SD_B0_03 (io), K2 VSS_13 (io), K3 DCDC_PSWITCH (io), K4 DCDC_IN_Q (io), K5 NVCC_SD1 (io), K6 TEST_MODE (io), K7 PMIC_ON_REQ (io), K8 VDD_USB_CAP (io), K9 NGND_KEL0 (io), K10 GPIO_AD_B1_07 (io), K11 GPIO_AD_B1_01 (io), K12 GPIO_AD_B1_05 (io), K13 VSS_14 (io), K14 GPIO_AD_B0_12 (io), L1 DCDC_IN_1 (io), L2 DCDC_IN_2 (io), L3 GPIO_SD_B1_06 (io), L4 GPIO_SD_B1_07 (io), L5 GPIO_SD_B1_00 (io), L6 WAKEUP (io), L7 PMIC_STBY_REQ (io), L8 USB_OTG1_DP (io), L9 VSS_15 (io), L10 GPIO_AD_B0_15 (io), L11 GPIO_AD_B1_02 (io), L12 GPIO_AD_B1_04 (io), L13 GPIO_AD_B1_10 (io), L14 GPIO_AD_B0_13 (io), M1 DCDC_LP_1 (io), M2 DCDC_LP_2 (io), M3 GPIO_SD_B1_02 (io), M4 GPIO_SD_B1_03 (io), M5 GPIO_SD_B1_01 (io), M6 ONOFF (io), M7 POR_B (io), M8 USB_OTG1_DN (io), M9 VDD_SNVS_IN (io), M10 VDD_SNVS_CAP (io), M11 GPIO_AD_B0_02 (io), M12 GPIO_AD_B1_03 (io), M13 GPIO_AD_B1_09 (io), M14 GPIO_AD_B0_00 (io), N1 DCDC_GND_1 (io), N2 DCDC_GND_2 (io), N3 GPIO_SD_B1_05 (io), N4 GPIO_SD_B1_09 (io), N5 VSS_16 (io), N6 USB_OTG1_VBUS (io), N7 USB_OTG2_DN (io), N8 VSS_17 (io), N9 RTC_XTALI (io), N10 GPANAIO (io), N11 XTALO (io), N12 USB_OTG1_CHD_B (io), N13 CCM_CLK1_P (io), N14 VDDA_ADC_3P3 (io), P1 VSS_18 (io), P2 GPIO_SD_B1_04 (io), P3 GPIO_SD_B1_08 (io), P4 GPIO_SD_B1_10 (io), P5 GPIO_SD_B1_11 (io), P6 USB_OTG2_VBUS (io), P7 USB_OTG2_DP (io), P8 VDD_HIGH_CAP (io), P9 RTC_XTALO (io), P10 NVCC_PLL (io), P11 XTALI (io), P12 VDD_HIGH_IN (io), P13 CCM_CLK1_N (io), P14 VSS_19 (io)

## MOUNT-PAD-ROUND2.8
designator H?
MOUNTING PAD, round; GateName_1: G$1; DeviceName: 2.8; POPULARITY: 6; POPULATE: 0; SymbolName_1: MOUNT-PAD; LibraryName: holes; DeviceSetName: MOUNT-PAD-ROUND
footprint 2,8-PAD
pins: B2,8 MOUNT

## MXC4005XC
designator IC?
Accelerometers Monolithic and Wafer Level Packaged Three-Axis Accelerometer   Source:  Datasheet; MANUFACTURER_NAME: MEMSIC; GateName_1: G$1; SymbolName_1: MXC4005XC; LibraryName: MXC4005XC; DeviceSetName: MXC4005XC; HEIGHT: 0.885mm; MANUFACTURER_PART_NUMBER: MXC4005XC; MOUSER_PART_NUMBER: 438-MXC4005XC; MOUSER_PRICE-STOCK: https://www.mouser.co.uk/ProductDetail/MEMSIC/MXC4005XC?qs=RcG8xmE7yp3iyYgWLmAtUw%3D%3D; MPN: MXC4005XC
footprint MXC4005XC
pins: 1 SCL (io), 2 NC, 3 GND (io), 4 INT (io), 5 SDA (io), 6 VDD (io)

## OMV
designator P?, comment OpenMV Logo  (no BOM)
footprint OMV-LOGO
text: OpenMV

## PMXB120EPEZ
designator Q?
GateName_1: G$1; HEIGHT: 1.1mm
footprint PMXB120EPEZ (Footprint not found)
pins: D (io), G (io), S (io)

## RESISTOR0402-RES
designator R?, comment 5.1K
ResistorBasic schematic elements and footprints for 0603, 1206, and PTH resistors.; MPN: RMC1/20-512FPA; GateName_1: G$1; DeviceName: 0402-RES; SymbolName_1: RESISTOR; LibraryName: sfe; DeviceSetName: RESISTOR
footprint 0402-RES
pins: 1, 2

## RESISTOR0402-RES_1
designator R?, comment 1.13K
ResistorBasic schematic elements and footprints for 0603, 1206, and PTH resistors.; MPN: CRCW04021K13FKED; GateName_1: G$1; DeviceName: 0402-RES; SymbolName_1: RESISTOR; LibraryName: sfe; DeviceSetName: RESISTOR
footprint 0402-RES
pins: 1, 2

## RESISTOR0402-RES_2
designator R?, comment 46.4K
ResistorBasic schematic elements and footprints for 0603, 1206, and PTH resistors.; MPN: WR04X4642FTL; GateName_1: G$1; DeviceName: 0402-RES; SymbolName_1: RESISTOR; LibraryName: sfe; DeviceSetName: RESISTOR
footprint 0402-RES
pins: 1, 2

## RESISTOR0402-RES_3
designator R?, comment 1.18K
ResistorBasic schematic elements and footprints for 0603, 1206, and PTH resistors.; MPN: AC0402FR-071K18L; GateName_1: G$1; DeviceName: 0402-RES; SymbolName_1: RESISTOR; LibraryName: sfe; DeviceSetName: RESISTOR
footprint 0402-RES
pins: 1, 2

## RESISTOR0402-RES_4
designator R?, comment 10K
ResistorBasic schematic elements and footprints for 0603, 1206, and PTH resistors.; MPN: AC0402FR-1310KL; GateName_1: G$1; DeviceName: 0402-RES; SymbolName_1: RESISTOR; LibraryName: sfe; DeviceSetName: RESISTOR
footprint 0402-RES
pins: 1, 2

## RESISTOR0402-RES_5
designator R?, comment 1K
ResistorBasic schematic elements and footprints for 0603, 1206, and PTH resistors.; MPN: 0402WGF1001TCE; GateName_1: G$1; DeviceName: 0402-RES; SymbolName_1: RESISTOR; LibraryName: sfe; DeviceSetName: RESISTOR
footprint 0402-RES
pins: 1, 2

## RESISTOR0402-RES_6
designator R?, comment 100K
ResistorBasic schematic elements and footprints for 0603, 1206, and PTH resistors.; MPN: AC0402FR-07100KL; GateName_1: G$1; DeviceName: 0402-RES; SymbolName_1: RESISTOR; LibraryName: sfe; DeviceSetName: RESISTOR
footprint 0402-RES
pins: 1, 2

## RESISTOR0402-RES_7
designator R?, comment 200K
ResistorBasic schematic elements and footprints for 0603, 1206, and PTH resistors.; MPN: CRCW0402200KFKEDC; GateName_1: G$1; DeviceName: 0402-RES; SymbolName_1: RESISTOR; LibraryName: sfe; DeviceSetName: RESISTOR
footprint 0402-RES
pins: 1, 2

## RESISTOR0402-RES_8
designator R?, comment 44.2K
ResistorBasic schematic elements and footprints for 0603, 1206, and PTH resistors.; MPN: AC0402FR-0744K2L; GateName_1: G$1; DeviceName: 0402-RES; SymbolName_1: RESISTOR; LibraryName: sfe; DeviceSetName: RESISTOR
footprint 0402-RES
pins: 1, 2

## RESISTOR0402-RES_9
designator R?, comment 2.7K
ResistorBasic schematic elements and footprints for 0603, 1206, and PTH resistors.; MPN: AC0402JR-072K7L; GateName_1: G$1; DeviceName: 0402-RES; SymbolName_1: RESISTOR; LibraryName: sfe; DeviceSetName: RESISTOR
footprint 0402-RES
pins: 1, 2

## RESISTOR0402-RES_10
designator R?, comment 220
ResistorBasic schematic elements and footprints for 0603, 1206, and PTH resistors.; MPN: CRGCQ0402F220R; GateName_1: G$1; DeviceName: 0402-RES; SymbolName_1: RESISTOR; LibraryName: sfe; DeviceSetName: RESISTOR
footprint 0402-RES
pins: 1, 2

## RESISTOR0402-RES_11
designator R?, comment 4.7K
ResistorBasic schematic elements and footprints for 0603, 1206, and PTH resistors.; MPN: AC0402FR-074K7L; GateName_1: G$1; DeviceName: 0402-RES; SymbolName_1: RESISTOR; LibraryName: sfe; DeviceSetName: RESISTOR
footprint 0402-RES
pins: 1, 2

## RESISTOR0402-RES_12
designator R?, comment 6.49K
ResistorBasic schematic elements and footprints for 0603, 1206, and PTH resistors.; MPN: CR0402-FX-6491GLF; GateName_1: G$1; DeviceName: 0402-RES; SymbolName_1: RESISTOR; LibraryName: sfe; DeviceSetName: RESISTOR
footprint 0402-RES
pins: 1, 2

## RESISTOR0402-RES_13
designator R?, comment 30K
ResistorBasic schematic elements and footprints for 0603, 1206, and PTH resistors.; MPN: 0402WGF3002TCE; GateName_1: G$1; DeviceName: 0402-RES; SymbolName_1: RESISTOR; LibraryName: sfe; DeviceSetName: RESISTOR
footprint 0402-RES
pins: 1, 2

## RESISTOR0402-RES_14
designator R?, comment 2.2M
ResistorBasic schematic elements and footprints for 0603, 1206, and PTH resistors.; MPN: RC0402FR-072M2L; GateName_1: G$1; DeviceName: 0402-RES; SymbolName_1: RESISTOR; LibraryName: sfe; DeviceSetName: RESISTOR
footprint 0402-RES
pins: 1, 2

## ROHS
designator P?, comment RoHS Logo  (no BOM)
footprint ROHS

## Schottky
designator D?
Value: ?V; MANUFACTURER P/N: *
pins: 1, 2

## SE050C1HQ1/Z01SCZ
designator U?
Part Number: SE050C1HQ1/Z01SCZ
footprint HX2QFN20 (NXP)
pins: 1 ISO 14443 LB, 2 NC, 3 USI 7816 IO1, 4 NC, 5 NC, 6 NC, 7 NC, 8 NC, 9 SDA, 10 SCL, 11 ENA, 12 VIN, 13 ISO 7816 CLK, 14 ISO 7816 ~{RST}, 15 VOUT, 16 ISO 7816 IO2, 17 ISO 14443 LA, 18 VCC, 19 VSS, 20 NC, EP

## TCR2LF33,LM(CT
designator U?
GateName_1: G$1; SymbolName_1: TCR2LF33,LM(CT; LibraryName: TCR2LF33,LM(CT; DeviceSetName: TCR2LF33,LM(CT; MPN: TCR2LF33,LM(CT
footprint SOT-23-5
pins: 1 VIN (io), 2 GND (io), 3 EN (io), 5 VOUT (io)

## TP
designator TP?  (value not drawn)  (no BOM)
footprint TP_1p8 (0.8mm hold, 1.8mm pad)
footprint TP_2p7 (1.2mm hole, 2.7mm pad)
pins: 1

## UHD1110-FKA-CL1A13R3Q1BBQFMF3
designator D?
LED RGB SMD, SIZE 1 X 1 mm Check availability; GateName_1: G$1; MF: Cree Inc.; SymbolName_1: UHD1110-FKA-CL1A13R3Q1BBQFMF3; LibraryName: UHD1110-FKA-CL1A13R3Q1BBQFMF3; DeviceSetName: UHD1110-FKA-CL1A13R3Q1BBQFMF3; AVAILABILITY: In Stock; MP: UHD1110-FKA-CL1A13R3Q1BBQFMF3; MPN: UHD1110-FKA-CL1A13r3q1BBQFMF3; PACKAGE: 0404 Cree Inc.; PRICE: None; PURCHASE-URL: https://pricing.snapeda.com/search/part/UHD1110-FKA-CL1A13R3Q1BBQFMF3/?ref=eda
footprint LED_UHD1110-FKA-CL1A13R3Q1BBQFMF3
pins: 1 BLUE, 2 GREEN, 3 RED, 4 ANODE

## USB4105-GF-A
designator J?
USB-C (USB TYPE-C) USB 2.0 Receptacle Connector 24 (16+8 Dummy) Position Surface Mount, Right Angle; Through Hole  Check availability; GateName_1: G$1; MF: GCT; SymbolName_1: USB4105-GF-A; LibraryName: USB4105-GF-A; DeviceSetName: USB4105-GF-A; AVAILABILITY: In Stock; MP: USB4105-GF-A; MPN: USB4105-GF-A; PACKAGE: None; PRICE: None; PURCHASE-URL: https://pricing.snapeda.com/search/part/USB4105-GF-A/?ref=eda
footprint GCT_USB4105-GF-A
pins: A1_B12 GND (power), A4_B9 VBUS (power), A5 CC1 (io), A6 DP1 (io), A7 DN1 (io), A8 SBU1 (io), B1_A12 GND (power), B4_A9 VBUS (power), B5 CC2 (io), B6 DP2 (io), B7 DN2 (io), B8 SBU2 (io), SH SHELL_GND (power)

## USD-1040310811
designator J?
MPN: 104031-0811; GateName_1: G$1; SymbolName_1: USD; LibraryName: 1040310811; DeviceSetName: USD-1040310811
footprint 1040310811
pins: CD$1 CD (power), CD$2 CD_POL (power), P$1 DAT2 (io), P$2 DAT3/CD (io), P$3 CMD (io), P$4 VDD (power), P$5 CLK (io), P$6 VSS (power), P$7 DAT0 (io), P$8 DAT1 (io), SH SHD (power)

## WEEE
designator P?, comment WEEE Logo  (no BOM)
footprint WEEE

## XRCGB24M000F3M00R0
designator Y?
Murata 24MHz Crystal +/-30ppm SMD 4-Pin 2 x 1.6 x 0.7mm   Source:  Datasheet; MANUFACTURER_NAME: Murata Electronics; GateName_1: G$1; SymbolName_1: XRCGB24M000F3M00R0; LibraryName: XRCGB24M000F3M00R0; DeviceSetName: XRCGB24M000F3M00R0; HEIGHT: mm; MANUFACTURER_PART_NUMBER: XRCGB24M000F3M00R0; MOUSER_PART_NUMBER: 81-XRCGB24M000F3M0R0; MOUSER_PRICE-STOCK: https://www.mouser.co.uk/ProductDetail/Murata-Electronics/XRCGB24M000F3M00R0?qs=e%252BE4OD6MgMefDn8VvwDdfw%3D%3D; MPN: XRCGB24M000F3M00R0
footprint XRCGB24M000F3M00R0
pins: 1 CRYSTAL_1 (io), 2 NC_1 (io), 3 CRYSTAL_2 (io), 4 NC_2 (io)